# EAGLE library part W5500_MODULELITE (library W5500_ModuleLite)
A custom W5500 Modulelite library made from using the datasheet link: https://nettigo.eu/products/ethernet-module-wiznet-w5500-usr-es1-w5500-lite
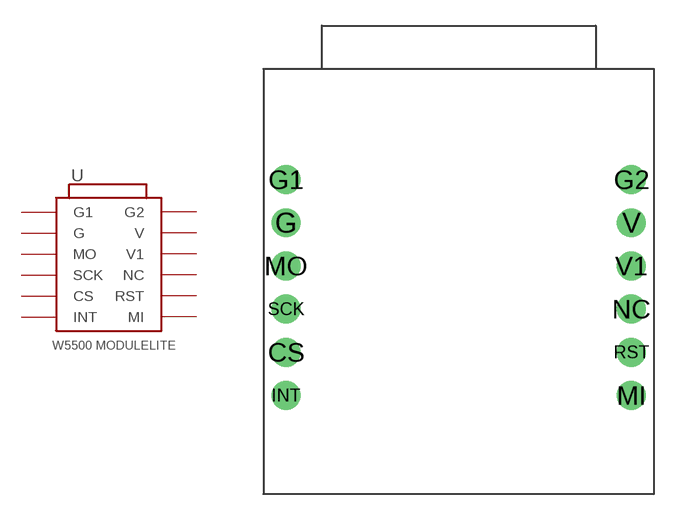
[diagram p0: symbol with the pads of W5500_MODULELITE; footprint W5500_MODULELITE]

Designator prefix -

## W5500_MODULELITE  [W5500_MODULELITE]
CS  CS  pas
G  G  pas
G1  G1  pas
G2  G2  pas
INT  INT  pas
MI  MI  pas
MO  MO  pas
NC  NC  pas
RST  RST  pas
SCK  SCK  pas
V  V  pas
V1  V1  pas

## Footprint W5500_MODULELITE (pad centres in mm)
drill 0.9 pad 1.7: CS -10.09,-5.63; G -10.09,1.99; G1 -10.09,4.53; G2 10.23,4.53; INT -10.09,-8.17; MI 10.23,-8.17; MO -10.09,-0.55; NC 10.23,-3.09; RST 10.23,-5.63; SCK -10.09,-3.09; V 10.23,1.99; V1 10.23,-0.55